# Altium schematic symbol library DS1338Z-33+.SchLib: 1 symbol
Pins are listed as number, name and electrical type; pins without a type are passive.

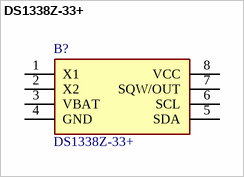
[diagram p0: symbol DS1338Z-33+]

## DS1338Z-33+
designator B?
Real Time Clock Serial 56Byte Maxim DS1338Z-33+ Real Time Clock  Battery Backup, Calendar, Clock, NV Timekeeping RAM, 56B RAM 8-Pin SOIC; Manufacturer_Name: Analog Devices; Geometry.Height: 1.75mm; Manufacturer_Part_Number: DS1338Z-33+; Mouser Part Number: 700-DS1338Z-33; Mouser Price/Stock: https://www.mouser.co.uk/ProductDetail/Analog-Devices-Maxim-Integrated/DS1338Z-33%2b?qs=0Y9aZN%252BMVCVblIXsYVg1wg%3D%3D; Arrow Part Number: DS1338Z-33+; Arrow Price/Stock: https://www.arrow.com/en/products/ds1338z-33/maxim-integrated?region=europe; Datasheet Link: https://datasheet.datasheetarchive.com/originals/distributors/SFDatasheet-4/sf-00086235.pdf
footprint SOIC127P600X175-8N
pins: 1 X1, 2 X2, 3 VBAT, 4 GND, 5 SDA, 6 SCL, 7 SQW/OUT, 8 VCC